# Altium footprint library memory.PCBLIB: 26 footprints (part 2 of 2)
Each footprint in its own frame and in the unit in brackets; x right, y up, seen from the top. Pads: shape width x height; smd on the part's side, far side on the other; paste and mask are expansions set on the pad; w line width, h text height; cw(c..) or ccw(c..) is an arc to the next point about the centre after c.
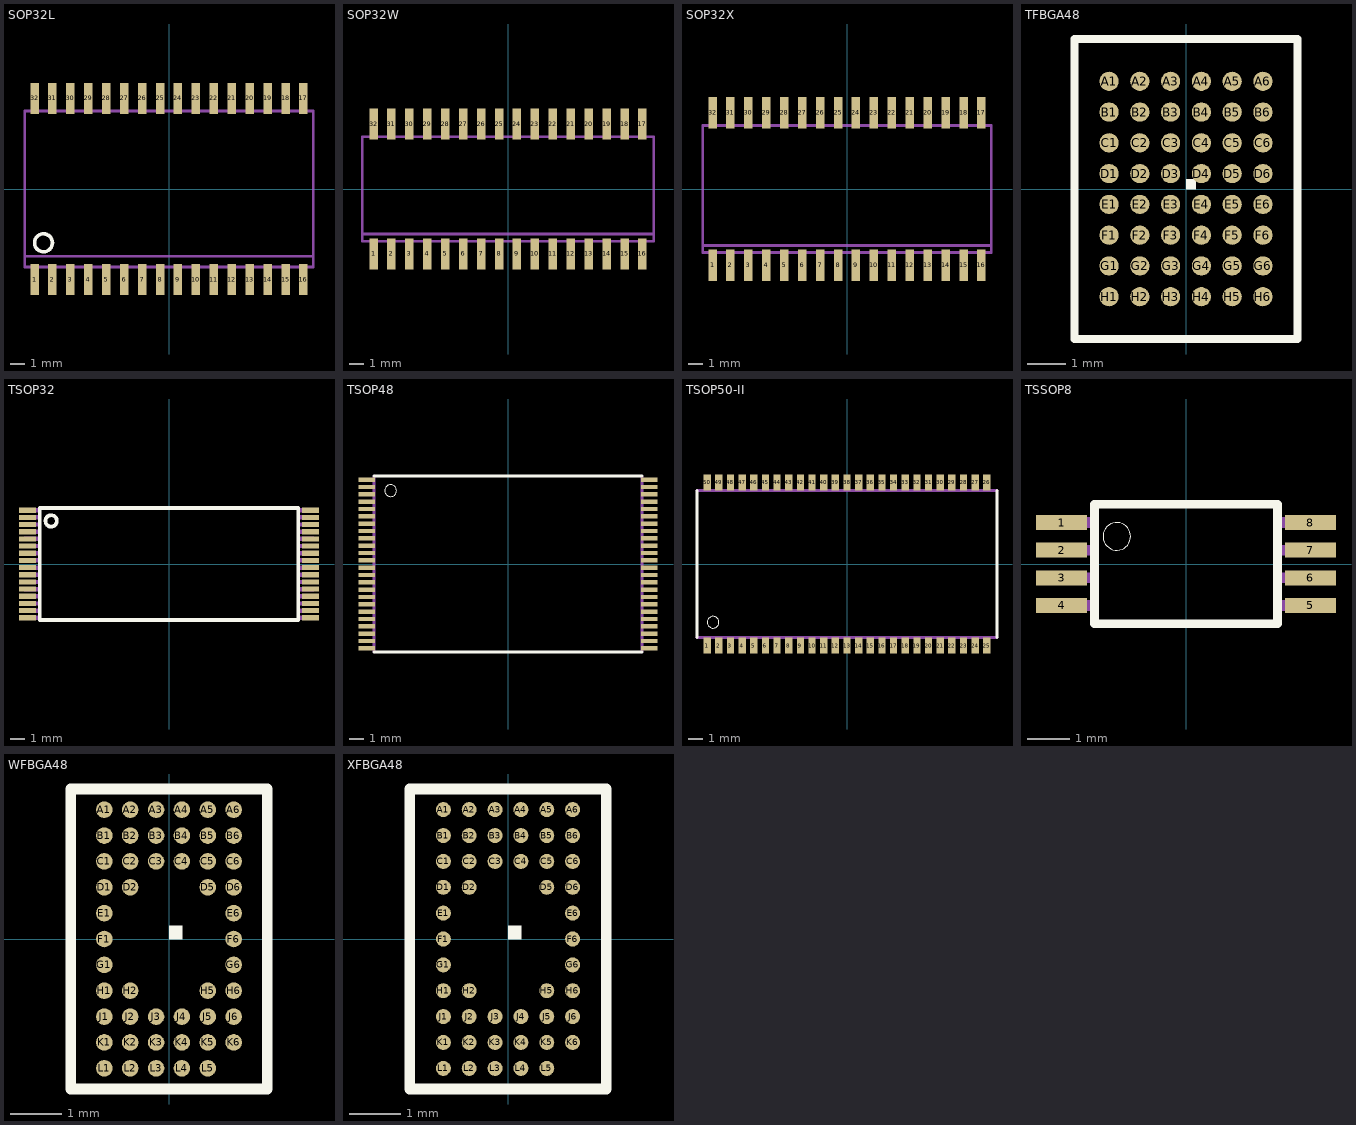
[diagram p1: the footprints below, top view; thin cyan lines are the x and y axes]

## SOP32L [mil]
pads (32):
  rect 23.62x86.61 smd: 1(-375,-252.6) 2(-325,-252.6) 3(-275,-252.6) 4(-225,-252.6) 5(-175,-252.6) 6(-125,-252.6) 7(-75,-252.6) 8(-25,-252.6) 9(25,-252.6) 10(75,-252.6) 11(125,-252.6) 12(175,-252.6) 13(225,-252.6) 14(275,-252.6) 15(325,-252.6) 16(375,-252.6) 17(375,252.6) 18(325,252.6) 19(275,252.6) 20(225,252.6) 21(175,252.6) 22(125,252.6) 23(75,252.6) 24(25,252.6) 25(-25,252.6) 26(-75,252.6) 27(-125,252.6) 28(-175,252.6) 29(-225,252.6) 30(-275,252.6) 31(-325,252.6) 32(-375,252.6)
Top Overlay:
  circle w10: c-350,-150 r25
Mechanical 16:
  rectangle: -384.65,-280.94 -365.35,-221.1
  rectangle: -334.65,-280.94 -315.35,-221.1
  rectangle: -284.65,-280.94 -265.35,-221.1
  rectangle: -234.65,-280.94 -215.35,-221.1
  rectangle: -184.65,-280.94 -165.35,-221.1
  rectangle: -134.65,-280.94 -115.35,-221.1
  rectangle: -84.65,-280.94 -65.35,-221.1
  rectangle: -34.65,-280.94 -15.35,-221.1
  rectangle: 15.35,-280.94 34.65,-221.1
  rectangle: 65.35,-280.94 84.65,-221.1
  rectangle: 115.35,-280.94 134.65,-221.1
  rectangle: 165.35,-280.94 184.65,-221.1
  rectangle: 215.35,-280.94 234.65,-221.1
  rectangle: 265.35,-280.94 284.65,-221.1
  rectangle: 315.35,-280.94 334.65,-221.1
  rectangle: 365.35,-280.94 384.65,-221.1
  rectangle: 365.35,221.1 384.65,280.94
  rectangle: 315.35,221.1 334.65,280.94
  rectangle: 265.35,221.1 284.65,280.94
  rectangle: 215.35,221.1 234.65,280.94
  rectangle: 165.35,221.1 184.65,280.94
  rectangle: 115.35,221.1 134.65,280.94
  rectangle: 65.35,221.1 84.65,280.94
  rectangle: 15.35,221.1 34.65,280.94
  rectangle: -34.65,221.1 -15.35,280.94
  rectangle: -84.65,221.1 -65.35,280.94
  rectangle: -134.65,221.1 -115.35,280.94
  rectangle: -184.65,221.1 -165.35,280.94
  rectangle: -234.65,221.1 -215.35,280.94
  rectangle: -284.65,221.1 -265.35,280.94
  rectangle: -334.65,221.1 -315.35,280.94
  rectangle: -384.65,221.1 -365.35,280.94
  lines w8: -402.36,-187.48 -402.36,-217.17 402.36,-217.17 402.36,-187.48 ; -402.36,-187.48 -402.36,217.17 402.36,217.17 402.36,-187.48 ; -402.36,-187.48 402.36,-187.48

## SOP32W [mil]
pads (32):
  rect 23.62x86.61 smd: 1(-375,-181.1) 2(-325,-181.1) 3(-275,-181.1) 4(-225,-181.1) 5(-175,-181.1) 6(-125,-181.1) 7(-75,-181.1) 8(-25,-181.1) 9(25,-181.1) 10(75,-181.1) 11(125,-181.1) 12(175,-181.1) 13(225,-181.1) 14(275,-181.1) 15(325,-181.1) 16(375,-181.1) 17(375,181.1) 18(325,181.1) 19(275,181.1) 20(225,181.1) 21(175,181.1) 22(125,181.1) 23(75,181.1) 24(25,181.1) 25(-25,181.1) 26(-75,181.1) 27(-125,181.1) 28(-175,181.1) 29(-225,181.1) 30(-275,181.1) 31(-325,181.1) 32(-375,181.1)
Mechanical 16:
  rectangle: -384.65,-209.45 -365.35,-149.61
  rectangle: -334.65,-209.45 -315.35,-149.61
  rectangle: -284.65,-209.45 -265.35,-149.61
  rectangle: -234.65,-209.45 -215.35,-149.61
  rectangle: -184.65,-209.45 -165.35,-149.61
  rectangle: -134.65,-209.45 -115.35,-149.61
  rectangle: -84.65,-209.45 -65.35,-149.61
  rectangle: -34.65,-209.45 -15.35,-149.61
  rectangle: 15.35,-209.45 34.65,-149.61
  rectangle: 65.35,-209.45 84.65,-149.61
  rectangle: 115.35,-209.45 134.65,-149.61
  rectangle: 165.35,-209.45 184.65,-149.61
  rectangle: 215.35,-209.45 234.65,-149.61
  rectangle: 265.35,-209.45 284.65,-149.61
  rectangle: 315.35,-209.45 334.65,-149.61
  rectangle: 365.35,-209.45 384.65,-149.61
  rectangle: 365.35,149.61 384.65,209.45
  rectangle: 315.35,149.61 334.65,209.45
  rectangle: 265.35,149.61 284.65,209.45
  rectangle: 215.35,149.61 234.65,209.45
  rectangle: 165.35,149.61 184.65,209.45
  rectangle: 115.35,149.61 134.65,209.45
  rectangle: 65.35,149.61 84.65,209.45
  rectangle: 15.35,149.61 34.65,209.45
  rectangle: -34.65,149.61 -15.35,209.45
  rectangle: -84.65,149.61 -65.35,209.45
  rectangle: -134.65,149.61 -115.35,209.45
  rectangle: -184.65,149.61 -165.35,209.45
  rectangle: -234.65,149.61 -215.35,209.45
  rectangle: -284.65,149.61 -265.35,209.45
  rectangle: -334.65,149.61 -315.35,209.45
  rectangle: -384.65,149.61 -365.35,209.45
  lines w8: -406.3,-125.98 -406.3,-145.67 406.3,-145.67 406.3,-125.98 ; -406.3,-125.98 -406.3,145.67 406.3,145.67 406.3,-125.98 ; -406.3,-125.98 406.3,-125.98

## SOP32X [mil]
pads (32):
  rect 23.62x86.61 smd: 1(-375,-212.6) 2(-325,-212.6) 3(-275,-212.6) 4(-225,-212.6) 5(-175,-212.6) 6(-125,-212.6) 7(-75,-212.6) 8(-25,-212.6) 9(25,-212.6) 10(75,-212.6) 11(125,-212.6) 12(175,-212.6) 13(225,-212.6) 14(275,-212.6) 15(325,-212.6) 16(375,-212.6) 17(375,212.6) 18(325,212.6) 19(275,212.6) 20(225,212.6) 21(175,212.6) 22(125,212.6) 23(75,212.6) 24(25,212.6) 25(-25,212.6) 26(-75,212.6) 27(-125,212.6) 28(-175,212.6) 29(-225,212.6) 30(-275,212.6) 31(-325,212.6) 32(-375,212.6)
Mechanical 16:
  rectangle: -384.65,-240.94 -365.35,-181.1
  rectangle: -334.65,-240.94 -315.35,-181.1
  rectangle: -284.65,-240.94 -265.35,-181.1
  rectangle: -234.65,-240.94 -215.35,-181.1
  rectangle: -184.65,-240.94 -165.35,-181.1
  rectangle: -134.65,-240.94 -115.35,-181.1
  rectangle: -84.65,-240.94 -65.35,-181.1
  rectangle: -34.65,-240.94 -15.35,-181.1
  rectangle: 15.35,-240.94 34.65,-181.1
  rectangle: 65.35,-240.94 84.65,-181.1
  rectangle: 115.35,-240.94 134.65,-181.1
  rectangle: 165.35,-240.94 184.65,-181.1
  rectangle: 215.35,-240.94 234.65,-181.1
  rectangle: 265.35,-240.94 284.65,-181.1
  rectangle: 315.35,-240.94 334.65,-181.1
  rectangle: 365.35,-240.94 384.65,-181.1
  rectangle: 365.35,181.1 384.65,240.94
  rectangle: 315.35,181.1 334.65,240.94
  rectangle: 265.35,181.1 284.65,240.94
  rectangle: 215.35,181.1 234.65,240.94
  rectangle: 165.35,181.1 184.65,240.94
  rectangle: 115.35,181.1 134.65,240.94
  rectangle: 65.35,181.1 84.65,240.94
  rectangle: 15.35,181.1 34.65,240.94
  rectangle: -34.65,181.1 -15.35,240.94
  rectangle: -84.65,181.1 -65.35,240.94
  rectangle: -134.65,181.1 -115.35,240.94
  rectangle: -184.65,181.1 -165.35,240.94
  rectangle: -234.65,181.1 -215.35,240.94
  rectangle: -284.65,181.1 -265.35,240.94
  rectangle: -334.65,181.1 -315.35,240.94
  rectangle: -384.65,181.1 -365.35,240.94
  lines w8: -402.36,-157.48 -402.36,-177.17 402.36,-177.17 402.36,-157.48 ; -402.36,-157.48 -402.36,177.17 402.36,177.17 402.36,-157.48 ; -402.36,-157.48 402.36,-157.48

## TFBGA48 [mm]
pads (48):
  rrect100% 0.5x0.5 smd: A1(-2,2.8) A2(-1.2,2.8) A3(-0.4,2.8) A4(0.4,2.8) A5(1.2,2.8) A6(2,2.8) B1(-2,2) B2(-1.2,2) B3(-0.4,2) B4(0.4,2) B5(1.2,2) B6(2,2) C1(-2,1.2) C2(-1.2,1.2) C3(-0.4,1.2) C4(0.4,1.2) C5(1.2,1.2) C6(2,1.2) D1(-2,0.4) D2(-1.2,0.4) D3(-0.4,0.4) D4(0.4,0.4) D5(1.2,0.4) D6(2,0.4) E1(-2,-0.4) E2(-1.2,-0.4) E3(-0.4,-0.4) E4(0.4,-0.4) E5(1.2,-0.4) E6(2,-0.4) F1(-2,-1.2) F2(-1.2,-1.2) F3(-0.4,-1.2) F4(0.4,-1.2) F5(1.2,-1.2) F6(2,-1.2) G1(-2,-2) G2(-1.2,-2) G3(-0.4,-2) G4(0.4,-2) G5(1.2,-2) G6(2,-2) H1(-2,-2.8) H2(-1.2,-2.8) H3(-0.4,-2.8) H4(0.4,-2.8) H5(1.2,-2.8) H6(2,-2.8)
Top Overlay:
  region: 0,0 0.254,0 0.254,0.254 0,0.254
  lines w0.203: -2.9,-3.9 2.9,-3.9 2.9,3.9 -2.9,3.9 -2.9,-3.9
Top Solder:
  circle w0: c-2,2.8 r0.225
  circle w0: c-2,2 r0.225
  circle w0: c-2,1.2 r0.225
  circle w0: c-2,0.4 r0.225
  circle w0: c-2,-0.4 r0.225
  circle w0: c-2,-1.2 r0.225
  circle w0: c-2,-2 r0.225
  circle w0: c-2,-2.8 r0.225
  circle w0: c-1.2,2.8 r0.225
  circle w0: c-1.2,2 r0.225
  circle w0: c-1.2,1.2 r0.225
  circle w0: c-1.2,0.4 r0.225
  circle w0: c-1.2,-0.4 r0.225
  circle w0: c-1.2,-1.2 r0.225
  circle w0: c-1.2,-2 r0.225
  circle w0: c-1.2,-2.8 r0.225
  circle w0: c-0.4,2.8 r0.225
  circle w0: c-0.4,2 r0.225
  circle w0: c-0.4,1.2 r0.225
  circle w0: c-0.4,0.4 r0.225
  circle w0: c-0.4,-0.4 r0.225
  circle w0: c-0.4,-1.2 r0.225
  circle w0: c-0.4,-2 r0.225
  circle w0: c-0.4,-2.8 r0.225
  circle w0: c0.4,2.8 r0.225
  circle w0: c0.4,2 r0.225
  circle w0: c0.4,1.2 r0.225
  circle w0: c0.4,0.4 r0.225
  circle w0: c0.4,-0.4 r0.225
  circle w0: c0.4,-1.2 r0.225
  circle w0: c0.4,-2 r0.225
  circle w0: c0.4,-2.8 r0.225
  circle w0: c1.2,2.8 r0.225
  circle w0: c1.2,2 r0.225
  circle w0: c1.2,1.2 r0.225
  circle w0: c1.2,0.4 r0.225
  circle w0: c1.2,-0.4 r0.225
  circle w0: c1.2,-1.2 r0.225
  circle w0: c1.2,-2 r0.225
  circle w0: c1.2,-2.8 r0.225
  circle w0: c2,2.8 r0.225
  circle w0: c2,2 r0.225
  circle w0: c2,1.2 r0.225
  circle w0: c2,0.4 r0.225
  circle w0: c2,-0.4 r0.225
  circle w0: c2,-1.2 r0.225
  circle w0: c2,-2 r0.225
  circle w0: c2,-2.8 r0.225

## TSOP32 [mil]
pads (32):
  rect 47.24x14.17 smd: 1(-387.8,147.64) 2(-387.8,127.95) 3(-387.8,108.27) 4(-387.8,88.58) 5(-387.8,68.9) 6(-387.8,49.21) 7(-387.8,29.53) 8(-387.8,9.84) 9(-387.8,-9.84) 10(-387.8,-29.53) 11(-387.8,-49.21) 12(-387.8,-68.9) 13(-387.8,-88.58) 14(-387.8,-108.27) 15(-387.8,-127.95) 16(-387.8,-147.64) 17(387.8,-147.64) 18(387.8,-127.95) 19(387.8,-108.27) 20(387.8,-88.58) 21(387.8,-68.9) 22(387.8,-49.21) 23(387.8,-29.53) 24(387.8,-9.84) 25(387.8,9.84) 26(387.8,29.53) 27(387.8,49.21) 28(387.8,68.9) 29(387.8,88.58) 30(387.8,108.27) 31(387.8,127.95) 32(387.8,147.64)
Top Overlay:
  circle w10: c-323.23,118.11 r15.75
  lines w10: -354.33,-153.54 354.33,-153.54 354.33,153.54 -354.33,153.54 -354.33,-153.54
Mechanical 16:
  rectangle: -398.02,141.64 -356.02,153.64
  rectangle: -398.02,121.95 -356.02,133.95
  rectangle: -398.02,102.27 -356.02,114.27
  rectangle: -398.02,82.58 -356.02,94.58
  rectangle: -398.02,62.9 -356.02,74.9
  rectangle: -398.02,43.21 -356.02,55.21
  rectangle: -398.02,23.53 -356.02,35.53
  rectangle: -398.02,3.84 -356.02,15.84
  rectangle: -398.02,-15.84 -356.02,-3.84
  rectangle: -398.02,-35.53 -356.02,-23.53
  rectangle: -398.02,-55.21 -356.02,-43.21
  rectangle: -398.02,-74.9 -356.02,-62.9
  rectangle: -398.02,-94.58 -356.02,-82.58
  rectangle: -398.02,-114.27 -356.02,-102.27
  rectangle: -398.02,-133.95 -356.02,-121.95
  rectangle: -398.02,-153.64 -356.02,-141.64
  rectangle: 356.02,-153.64 398.02,-141.64
  rectangle: 356.02,-133.95 398.02,-121.95
  rectangle: 356.02,-114.27 398.02,-102.27
  rectangle: 356.02,-94.58 398.02,-82.58
  rectangle: 356.02,-74.9 398.02,-62.9
  rectangle: 356.02,-55.21 398.02,-43.21
  rectangle: 356.02,-35.53 398.02,-23.53
  rectangle: 356.02,-15.84 398.02,-3.84
  rectangle: 356.02,3.84 398.02,15.84
  rectangle: 356.02,23.53 398.02,35.53
  rectangle: 356.02,43.21 398.02,55.21
  rectangle: 356.02,62.9 398.02,74.9
  rectangle: 356.02,82.58 398.02,94.58
  rectangle: 356.02,102.27 398.02,114.27
  rectangle: 356.02,121.95 398.02,133.95
  rectangle: 356.02,141.64 398.02,153.64

## TSOP48 [mil]
pads (48):
  rect 43.31x11.81 smd: 1(-378.94,226.38) 2(-378.94,206.69) 3(-378.94,187.01) 4(-378.94,167.32) 5(-378.94,147.64) 6(-378.94,127.95) 7(-378.94,108.27) 8(-378.94,88.58) 9(-378.94,68.9) 10(-378.94,49.21) 11(-378.94,29.53) 12(-378.94,9.84) 13(-378.94,-9.84) 14(-378.94,-29.53) 15(-378.94,-49.21) 16(-378.94,-68.9) 17(-378.94,-88.58) 18(-378.94,-108.27) 19(-378.94,-127.95) 20(-378.94,-147.64) 21(-378.94,-167.32) 22(-378.94,-187.01) 23(-378.94,-206.69) 24(-378.94,-226.38) 25(378.94,-226.38) 26(378.94,-206.69) 27(378.94,-187.01) 28(378.94,-167.32) 29(378.94,-147.64) 30(378.94,-127.95) 31(378.94,-108.27) 32(378.94,-88.58) 33(378.94,-68.9) 34(378.94,-49.21) 35(378.94,-29.53) 36(378.94,-9.84) 37(378.94,9.84) 38(378.94,29.53) 39(378.94,49.21) 40(378.94,68.9) 41(378.94,88.58) 42(378.94,108.27) 43(378.94,127.95) 44(378.94,147.64) 45(378.94,167.32) 46(378.94,187.01) 47(378.94,206.69) 48(378.94,226.38)
Top Overlay:
  circle w0: c-314.96,196.85 r15.75
  lines w8: -360.24,-236.22 360.24,-236.22 ; -360.24,236.22 360.24,236.22
Top Solder:
  rectangle: -402.56,218.5 -355.32,234.25
  rectangle: -402.56,198.82 -355.32,214.57
  rectangle: -402.56,179.13 -355.32,194.88
  rectangle: -402.56,159.45 -355.32,175.2
  rectangle: -402.56,139.76 -355.32,155.51
  rectangle: -402.56,120.08 -355.32,135.83
  rectangle: -402.56,100.39 -355.32,116.14
  rectangle: -402.56,80.71 -355.32,96.46
  rectangle: -402.56,61.02 -355.32,76.77
  rectangle: -402.56,41.34 -355.32,57.09
  rectangle: -402.56,21.65 -355.32,37.4
  rectangle: -402.56,1.97 -355.32,17.72
  rectangle: -402.56,-17.72 -355.32,-1.97
  rectangle: -402.56,-37.4 -355.32,-21.65
  rectangle: -402.56,-57.09 -355.32,-41.34
  rectangle: -402.56,-76.77 -355.32,-61.02
  rectangle: -402.56,-96.46 -355.32,-80.71
  rectangle: -402.56,-116.14 -355.32,-100.39
  rectangle: -402.56,-135.83 -355.32,-120.08
  rectangle: -402.56,-155.51 -355.32,-139.76
  rectangle: -402.56,-175.2 -355.32,-159.45
  rectangle: -402.56,-194.88 -355.32,-179.13
  rectangle: -402.56,-214.57 -355.32,-198.82
  rectangle: -402.56,-234.25 -355.32,-218.5
  region: 402.56,-218.5 355.32,-218.5 355.32,-234.25 402.56,-234.25
  region: 402.56,-198.82 355.32,-198.82 355.32,-214.57 402.56,-214.57
  region: 402.56,-179.13 355.32,-179.13 355.32,-194.88 402.56,-194.88
  region: 402.56,-159.45 355.32,-159.45 355.32,-175.2 402.56,-175.2
  region: 402.56,-139.76 355.32,-139.76 355.32,-155.51 402.56,-155.51
  region: 402.56,-120.08 355.32,-120.08 355.32,-135.83 402.56,-135.83
  region: 402.56,-100.39 355.32,-100.39 355.32,-116.14 402.56,-116.14
  region: 402.56,-80.71 355.32,-80.71 355.32,-96.46 402.56,-96.46
  region: 402.56,-61.02 355.32,-61.02 355.32,-76.77 402.56,-76.77
  region: 402.56,-41.34 355.32,-41.34 355.32,-57.09 402.56,-57.09
  region: 402.56,-21.65 355.32,-21.65 355.32,-37.4 402.56,-37.4
  region: 402.56,-1.97 355.32,-1.97 355.32,-17.72 402.56,-17.72
  region: 402.56,17.72 355.32,17.72 355.32,1.97 402.56,1.97
  region: 402.56,37.4 355.32,37.4 355.32,21.65 402.56,21.65
  region: 402.56,57.09 355.32,57.09 355.32,41.34 402.56,41.34
  region: 402.56,76.77 355.32,76.77 355.32,61.02 402.56,61.02
  region: 402.56,96.46 355.32,96.46 355.32,80.71 402.56,80.71
  region: 402.56,116.14 355.32,116.14 355.32,100.39 402.56,100.39
  region: 402.56,135.83 355.32,135.83 355.32,120.08 402.56,120.08
  region: 402.56,155.51 355.32,155.51 355.32,139.76 402.56,139.76
  region: 402.56,175.2 355.32,175.2 355.32,159.45 402.56,159.45
  region: 402.56,194.88 355.32,194.88 355.32,179.13 402.56,179.13
  region: 402.56,214.57 355.32,214.57 355.32,198.82 402.56,198.82
  region: 402.56,234.25 355.32,234.25 355.32,218.5 402.56,218.5
Mechanical 16:
  rectangle: -397.64,221.46 -363.19,231.3
  rectangle: -397.64,201.77 -363.19,211.61
  rectangle: -397.64,182.09 -363.19,191.93
  rectangle: -397.64,162.4 -363.19,172.24
  rectangle: -397.64,142.72 -363.19,152.56
  rectangle: -397.64,123.03 -363.19,132.87
  rectangle: -397.64,103.35 -363.19,113.19
  rectangle: -397.64,83.66 -363.19,93.5
  rectangle: -397.64,63.98 -363.19,73.82
  rectangle: -397.64,44.29 -363.19,54.13
  rectangle: -397.64,24.61 -363.19,34.45
  rectangle: -397.64,4.92 -363.19,14.76
  rectangle: -397.64,-14.76 -363.19,-4.92
  rectangle: -397.64,-34.45 -363.19,-24.61
  rectangle: -397.64,-54.13 -363.19,-44.29
  rectangle: -397.64,-73.82 -363.19,-63.98
  rectangle: -397.64,-93.5 -363.19,-83.66
  rectangle: -397.64,-113.19 -363.19,-103.35
  rectangle: -397.64,-132.87 -363.19,-123.03
  rectangle: -397.64,-152.56 -363.19,-142.72
  rectangle: -397.64,-172.24 -363.19,-162.4
  rectangle: -397.64,-191.93 -363.19,-182.09
  rectangle: -397.64,-211.61 -363.19,-201.77
  rectangle: -397.64,-231.3 -363.19,-221.46
  region: 397.64,-221.46 363.19,-221.46 363.19,-231.3 397.64,-231.3
  region: 397.64,-201.77 363.19,-201.77 363.19,-211.61 397.64,-211.61
  region: 397.64,-182.09 363.19,-182.09 363.19,-191.93 397.64,-191.93
  region: 397.64,-162.4 363.19,-162.4 363.19,-172.24 397.64,-172.24
  region: 397.64,-142.72 363.19,-142.72 363.19,-152.56 397.64,-152.56
  region: 397.64,-123.03 363.19,-123.03 363.19,-132.87 397.64,-132.87
  region: 397.64,-103.35 363.19,-103.35 363.19,-113.19 397.64,-113.19
  region: 397.64,-83.66 363.19,-83.66 363.19,-93.5 397.64,-93.5
  region: 397.64,-63.98 363.19,-63.98 363.19,-73.82 397.64,-73.82
  region: 397.64,-44.29 363.19,-44.29 363.19,-54.13 397.64,-54.13
  region: 397.64,-24.61 363.19,-24.61 363.19,-34.45 397.64,-34.45
  region: 397.64,-4.92 363.19,-4.92 363.19,-14.76 397.64,-14.76
  region: 397.64,14.76 363.19,14.76 363.19,4.92 397.64,4.92
  region: 397.64,34.45 363.19,34.45 363.19,24.61 397.64,24.61
  region: 397.64,54.13 363.19,54.13 363.19,44.29 397.64,44.29
  region: 397.64,73.82 363.19,73.82 363.19,63.98 397.64,63.98
  region: 397.64,93.5 363.19,93.5 363.19,83.66 397.64,83.66
  region: 397.64,113.19 363.19,113.19 363.19,103.35 397.64,103.35
  region: 397.64,132.87 363.19,132.87 363.19,123.03 397.64,123.03
  region: 397.64,152.56 363.19,152.56 363.19,142.72 397.64,142.72
  region: 397.64,172.24 363.19,172.24 363.19,162.4 397.64,162.4
  region: 397.64,191.93 363.19,191.93 363.19,182.09 397.64,182.09
  region: 397.64,211.61 363.19,211.61 363.19,201.77 397.64,201.77
  region: 397.64,231.3 363.19,231.3 363.19,221.46 397.64,221.46
  lines w8: -360.24,-236.22 -360.24,236.22 ; 360.24,-236.22 360.24,236.22

## TSOP50-II [mm]
pads (50):
  rect 0.5x1.1 smd: 1(-9.6,-5.6) 2(-8.8,-5.6) 3(-8,-5.6) 4(-7.2,-5.6) 5(-6.4,-5.6) 6(-5.6,-5.6) 7(-4.8,-5.6) 8(-4,-5.6) 9(-3.2,-5.6) 10(-2.4,-5.6) 11(-1.6,-5.6) 12(-0.8,-5.6) 13(0,-5.6) 14(0.8,-5.6) 15(1.6,-5.6) 16(2.4,-5.6) 17(3.2,-5.6) 18(4,-5.6) 19(4.8,-5.6) 20(5.6,-5.6) 21(6.4,-5.6) 22(7.2,-5.6) 23(8,-5.6) 24(8.8,-5.6) 25(9.6,-5.6) 26(9.6,5.6) 27(8.8,5.6) 28(8,5.6) 29(7.2,5.6) 30(6.4,5.6) 31(5.6,5.6) 32(4.8,5.6) 33(4,5.6) 34(3.2,5.6) 35(2.4,5.6) 36(1.6,5.6) 37(0.8,5.6) 38(0,5.6) 39(-0.8,5.6) 40(-1.6,5.6) 41(-2.4,5.6) 42(-3.2,5.6) 43(-4,5.6) 44(-4.8,5.6) 45(-5.6,5.6) 46(-6.4,5.6) 47(-7.2,5.6) 48(-8,5.6) 49(-8.8,5.6) 50(-9.6,5.6)
Top Overlay:
  circle w0: c-9.2,-4 r0.4
  lines w0.203: -10.3,-5.05 -10.3,5.05 ; 10.3,-5.05 10.3,5.05
Top Paste:
  rectangle: -9.8,-6.125 -9.4,-5.075
  rectangle: -9,-6.125 -8.6,-5.075
  rectangle: -8.2,-6.125 -7.8,-5.075
  rectangle: -7.4,-6.125 -7,-5.075
  rectangle: -6.6,-6.125 -6.2,-5.075
  rectangle: -5.8,-6.125 -5.4,-5.075
  rectangle: -5,-6.125 -4.6,-5.075
  rectangle: -4.2,-6.125 -3.8,-5.075
  rectangle: -3.4,-6.125 -3,-5.075
  rectangle: -2.6,-6.125 -2.2,-5.075
  rectangle: -1.8,-6.125 -1.4,-5.075
  rectangle: -1,-6.125 -0.6,-5.075
  rectangle: -0.2,-6.125 0.2,-5.075
  rectangle: 0.6,-6.125 1,-5.075
  rectangle: 1.4,-6.125 1.8,-5.075
  rectangle: 2.2,-6.125 2.6,-5.075
  rectangle: 3,-6.125 3.4,-5.075
  rectangle: 3.8,-6.125 4.2,-5.075
  rectangle: 4.6,-6.125 5,-5.075
  rectangle: 5.4,-6.125 5.8,-5.075
  rectangle: 6.2,-6.125 6.6,-5.075
  rectangle: 7,-6.125 7.4,-5.075
  rectangle: 7.8,-6.125 8.2,-5.075
  rectangle: 8.6,-6.125 9,-5.075
  rectangle: 9.4,-6.125 9.8,-5.075
  region: 9.8,6.125 9.4,6.125 9.4,5.075 9.8,5.075
  region: 9,6.125 8.6,6.125 8.6,5.075 9,5.075
  region: 8.2,6.125 7.8,6.125 7.8,5.075 8.2,5.075
  region: 7.4,6.125 7,6.125 7,5.075 7.4,5.075
  region: 6.6,6.125 6.2,6.125 6.2,5.075 6.6,5.075
  region: 5.8,6.125 5.4,6.125 5.4,5.075 5.8,5.075
  region: 5,6.125 4.6,6.125 4.6,5.075 5,5.075
  region: 4.2,6.125 3.8,6.125 3.8,5.075 4.2,5.075
  region: 3.4,6.125 3,6.125 3,5.075 3.4,5.075
  region: 2.6,6.125 2.2,6.125 2.2,5.075 2.6,5.075
  region: 1.8,6.125 1.4,6.125 1.4,5.075 1.8,5.075
  region: 1,6.125 0.6,6.125 0.6,5.075 1,5.075
  region: 0.2,6.125 -0.2,6.125 -0.2,5.075 0.2,5.075
  region: -0.6,6.125 -1,6.125 -1,5.075 -0.6,5.075
  region: -1.4,6.125 -1.8,6.125 -1.8,5.075 -1.4,5.075
  region: -2.2,6.125 -2.6,6.125 -2.6,5.075 -2.2,5.075
  region: -3,6.125 -3.4,6.125 -3.4,5.075 -3,5.075
  region: -3.8,6.125 -4.2,6.125 -4.2,5.075 -3.8,5.075
  region: -4.6,6.125 -5,6.125 -5,5.075 -4.6,5.075
  region: -5.4,6.125 -5.8,6.125 -5.8,5.075 -5.4,5.075
  region: -6.2,6.125 -6.6,6.125 -6.6,5.075 -6.2,5.075
  region: -7,6.125 -7.4,6.125 -7.4,5.075 -7,5.075
  region: -7.8,6.125 -8.2,6.125 -8.2,5.075 -7.8,5.075
  region: -8.6,6.125 -9,6.125 -9,5.075 -8.6,5.075
  region: -9.4,6.125 -9.8,6.125 -9.8,5.075 -9.4,5.075
Top Solder:
  rectangle: -9.9,-6.225 -9.3,-4.975
  rectangle: -9.1,-6.225 -8.5,-4.975
  rectangle: -8.3,-6.225 -7.7,-4.975
  rectangle: -7.5,-6.225 -6.9,-4.975
  rectangle: -6.7,-6.225 -6.1,-4.975
  rectangle: -5.9,-6.225 -5.3,-4.975
  rectangle: -5.1,-6.225 -4.5,-4.975
  rectangle: -4.3,-6.225 -3.7,-4.975
  rectangle: -3.5,-6.225 -2.9,-4.975
  rectangle: -2.7,-6.225 -2.1,-4.975
  rectangle: -1.9,-6.225 -1.3,-4.975
  rectangle: -1.1,-6.225 -0.5,-4.975
  rectangle: -0.3,-6.225 0.3,-4.975
  rectangle: 0.5,-6.225 1.1,-4.975
  rectangle: 1.3,-6.225 1.9,-4.975
  rectangle: 2.1,-6.225 2.7,-4.975
  rectangle: 2.9,-6.225 3.5,-4.975
  rectangle: 3.7,-6.225 4.3,-4.975
  rectangle: 4.5,-6.225 5.1,-4.975
  rectangle: 5.3,-6.225 5.9,-4.975
  rectangle: 6.1,-6.225 6.7,-4.975
  rectangle: 6.9,-6.225 7.5,-4.975
  rectangle: 7.7,-6.225 8.3,-4.975
  rectangle: 8.5,-6.225 9.1,-4.975
  rectangle: 9.3,-6.225 9.9,-4.975
  region: 9.9,6.225 9.3,6.225 9.3,4.975 9.9,4.975
  region: 9.1,6.225 8.5,6.225 8.5,4.975 9.1,4.975
  region: 8.3,6.225 7.7,6.225 7.7,4.975 8.3,4.975
  region: 7.5,6.225 6.9,6.225 6.9,4.975 7.5,4.975
  region: 6.7,6.225 6.1,6.225 6.1,4.975 6.7,4.975
  region: 5.9,6.225 5.3,6.225 5.3,4.975 5.9,4.975
  region: 5.1,6.225 4.5,6.225 4.5,4.975 5.1,4.975
  region: 4.3,6.225 3.7,6.225 3.7,4.975 4.3,4.975
  region: 3.5,6.225 2.9,6.225 2.9,4.975 3.5,4.975
  region: 2.7,6.225 2.1,6.225 2.1,4.975 2.7,4.975
  region: 1.9,6.225 1.3,6.225 1.3,4.975 1.9,4.975
  region: 1.1,6.225 0.5,6.225 0.5,4.975 1.1,4.975
  region: 0.3,6.225 -0.3,6.225 -0.3,4.975 0.3,4.975
  region: -0.5,6.225 -1.1,6.225 -1.1,4.975 -0.5,4.975
  region: -1.3,6.225 -1.9,6.225 -1.9,4.975 -1.3,4.975
  region: -2.1,6.225 -2.7,6.225 -2.7,4.975 -2.1,4.975
  region: -2.9,6.225 -3.5,6.225 -3.5,4.975 -2.9,4.975
  region: -3.7,6.225 -4.3,6.225 -4.3,4.975 -3.7,4.975
  region: -4.5,6.225 -5.1,6.225 -5.1,4.975 -4.5,4.975
  region: -5.3,6.225 -5.9,6.225 -5.9,4.975 -5.3,4.975
  region: -6.1,6.225 -6.7,6.225 -6.7,4.975 -6.1,4.975
  region: -6.9,6.225 -7.5,6.225 -7.5,4.975 -6.9,4.975
  region: -7.7,6.225 -8.3,6.225 -8.3,4.975 -7.7,4.975
  region: -8.5,6.225 -9.1,6.225 -9.1,4.975 -8.5,4.975
  region: -9.3,6.225 -9.9,6.225 -9.9,4.975 -9.3,4.975
Mechanical 16:
  rectangle: -9.8,-6 -9.4,-5.05
  rectangle: -9,-6 -8.6,-5.05
  rectangle: -8.2,-6 -7.8,-5.05
  rectangle: -7.4,-6 -7,-5.05
  rectangle: -6.6,-6 -6.2,-5.05
  rectangle: -5.8,-6 -5.4,-5.05
  rectangle: -5,-6 -4.6,-5.05
  rectangle: -4.2,-6 -3.8,-5.05
  rectangle: -3.4,-6 -3,-5.05
  rectangle: -2.6,-6 -2.2,-5.05
  rectangle: -1.8,-6 -1.4,-5.05
  rectangle: -1,-6 -0.6,-5.05
  rectangle: -0.2,-6 0.2,-5.05
  rectangle: 0.6,-6 1,-5.05
  rectangle: 1.4,-6 1.8,-5.05
  rectangle: 2.2,-6 2.6,-5.05
  rectangle: 3,-6 3.4,-5.05
  rectangle: 3.8,-6 4.2,-5.05
  rectangle: 4.6,-6 5,-5.05
  rectangle: 5.4,-6 5.8,-5.05
  rectangle: 6.2,-6 6.6,-5.05
  rectangle: 7,-6 7.4,-5.05
  rectangle: 7.8,-6 8.2,-5.05
  rectangle: 8.6,-6 9,-5.05
  rectangle: 9.4,-6 9.8,-5.05
  region: 9.8,6 9.4,6 9.4,5.05 9.8,5.05
  region: 9,6 8.6,6 8.6,5.05 9,5.05
  region: 8.2,6 7.8,6 7.8,5.05 8.2,5.05
  region: 7.4,6 7,6 7,5.05 7.4,5.05
  region: 6.6,6 6.2,6 6.2,5.05 6.6,5.05
  region: 5.8,6 5.4,6 5.4,5.05 5.8,5.05
  region: 5,6 4.6,6 4.6,5.05 5,5.05
  region: 4.2,6 3.8,6 3.8,5.05 4.2,5.05
  region: 3.4,6 3,6 3,5.05 3.4,5.05
  region: 2.6,6 2.2,6 2.2,5.05 2.6,5.05
  region: 1.8,6 1.4,6 1.4,5.05 1.8,5.05
  region: 1,6 0.6,6 0.6,5.05 1,5.05
  region: 0.2,6 -0.2,6 -0.2,5.05 0.2,5.05
  region: -0.6,6 -1,6 -1,5.05 -0.6,5.05
  region: -1.4,6 -1.8,6 -1.8,5.05 -1.4,5.05
  region: -2.2,6 -2.6,6 -2.6,5.05 -2.2,5.05
  region: -3,6 -3.4,6 -3.4,5.05 -3,5.05
  region: -3.8,6 -4.2,6 -4.2,5.05 -3.8,5.05
  region: -4.6,6 -5,6 -5,5.05 -4.6,5.05
  region: -5.4,6 -5.8,6 -5.8,5.05 -5.4,5.05
  region: -6.2,6 -6.6,6 -6.6,5.05 -6.2,5.05
  region: -7,6 -7.4,6 -7.4,5.05 -7,5.05
  region: -7.8,6 -8.2,6 -8.2,5.05 -7.8,5.05
  region: -8.6,6 -9,6 -9,5.05 -8.6,5.05
  region: -9.4,6 -9.8,6 -9.8,5.05 -9.4,5.05
  lines w0.203: -10.3,-5.05 10.3,-5.05 ; -10.3,5.05 10.3,5.05

## TSSOP8 [mm]
pads (8):
  rect 1.2x0.35 smd: 1(-2.925,0.975) 2(-2.925,0.325) 3(-2.925,-0.325) 4(-2.925,-0.975) 5(2.925,-0.975) 6(2.925,-0.325) 7(2.925,0.325) 8(2.925,0.975)
Top Overlay:
  circle w0: c-1.625,0.65 r0.325
  lines w0.203: -2.15,-1.4 2.15,-1.4 2.15,1.4 -2.15,1.4 -2.15,-1.4
Mechanical 16:
  rectangle: -3.2,0.85 -2.2,1.1
  rectangle: -3.2,0.2 -2.2,0.45
  rectangle: -3.2,-0.45 -2.2,-0.2
  rectangle: -3.2,-1.1 -2.2,-0.85
  rectangle: 2.2,-1.1 3.2,-0.85
  rectangle: 2.2,-0.45 3.2,-0.2
  rectangle: 2.2,0.2 3.2,0.45
  rectangle: 2.2,0.85 3.2,1.1

## WFBGA48 [mm]
pads (49):
  rrect100% 0.32x0.32 smd: A1(-1.25,2.5) A2(-0.75,2.5) A3(-0.25,2.5) A4(0.25,2.5) A5(0.75,2.5) A6(1.25,2.5) B1(-1.25,2) B2(-0.75,2) B3(-0.25,2) B4(0.25,2) B5(0.75,2) B6(1.25,2) C1(-1.25,1.5) C2(-0.75,1.5) C3(-0.25,1.5) C4(0.25,1.5) C5(0.75,1.5) C6(1.25,1.5) D1(-1.25,1) D2(-0.75,1) D5(0.75,1) D6(1.25,1) E1(-1.25,0.5) E6(1.25,0.5) F1(-1.25,0) F6(1.25,0) G1(-1.25,-0.5) G6(1.25,-0.5) H1(-1.25,-1) H2(-0.75,-1) H5(0.75,-1) H6(1.25,-1) J1(-1.25,-1.5) J2(-0.75,-1.5) J3(-0.25,-1.5) J4(0.25,-1.5) J5(0.75,-1.5) J6(1.25,-1.5) K1(-1.25,-2) K2(-0.75,-2) K3(-0.25,-2) K4(0.25,-2) K5(0.75,-2) K6(1.25,-2) L1(-1.25,-2.5) L2(-0.75,-2.5) L3(-0.25,-2.5) L4(0.25,-2.5) L5(0.75,-2.5)
Top Overlay:
  region: 0,0 0.254,0 0.254,0.254 0,0.254
  lines w0.203: -1.9,-2.9 1.9,-2.9 1.9,2.9 -1.9,2.9 -1.9,-2.9
Top Solder:
  circle w0: c-1.25,2.5 r0.16
  circle w0: c-1.25,2 r0.16
  circle w0: c-1.25,1.5 r0.16
  circle w0: c-1.25,1 r0.16
  circle w0: c-1.25,0.5 r0.16
  circle w0: c-1.25,0 r0.16
  circle w0: c-1.25,-0.5 r0.16
  circle w0: c-1.25,-1 r0.16
  circle w0: c-1.25,-1.5 r0.16
  circle w0: c-1.25,-2 r0.16
  circle w0: c-0.75,2.5 r0.16
  circle w0: c-0.75,2 r0.16
  circle w0: c-0.75,1.5 r0.16
  circle w0: c-0.75,1 r0.16
  circle w0: c-0.75,-1 r0.16
  circle w0: c-0.75,-1.5 r0.16
  circle w0: c-0.75,-2 r0.16
  circle w0: c-0.25,2.5 r0.16
  circle w0: c-0.25,2 r0.16
  circle w0: c-0.25,1.5 r0.16
  circle w0: c-0.25,-1.5 r0.16
  circle w0: c-0.25,-2 r0.16
  circle w0: c0.25,2.5 r0.16
  circle w0: c0.25,2 r0.16
  circle w0: c0.25,1.5 r0.16
  circle w0: c0.25,-1.5 r0.16
  circle w0: c0.25,-2 r0.16
  circle w0: c0.75,2.5 r0.16
  circle w0: c0.75,2 r0.16
  circle w0: c0.75,1.5 r0.16
  circle w0: c0.75,1 r0.16
  circle w0: c0.75,-1 r0.16
  circle w0: c0.75,-1.5 r0.16
  circle w0: c0.75,-2 r0.16
  circle w0: c1.25,2.5 r0.16
  circle w0: c1.25,2 r0.16
  circle w0: c1.25,1.5 r0.16
  circle w0: c1.25,1 r0.16
  circle w0: c1.25,0.5 r0.16
  circle w0: c1.25,0 r0.16
  circle w0: c1.25,-0.5 r0.16
  circle w0: c1.25,-1 r0.16
  circle w0: c1.25,-1.5 r0.16
  circle w0: c1.25,-2 r0.16
  circle w0: c-1.25,-2.5 r0.16
  circle w0: c-0.75,-2.5 r0.16
  circle w0: c-0.25,-2.5 r0.16
  circle w0: c0.25,-2.5 r0.16
  circle w0: c0.75,-2.5 r0.16

## XFBGA48 [mm]
pads (49):
  rrect100% 0.29x0.29 smd: A1(-1.25,2.5) A2(-0.75,2.5) A3(-0.25,2.5) A4(0.25,2.5) A5(0.75,2.5) A6(1.25,2.5) B1(-1.25,2) B2(-0.75,2) B3(-0.25,2) B4(0.25,2) B5(0.75,2) B6(1.25,2) C1(-1.25,1.5) C2(-0.75,1.5) C3(-0.25,1.5) C4(0.25,1.5) C5(0.75,1.5) C6(1.25,1.5) D1(-1.25,1) D2(-0.75,1) D5(0.75,1) D6(1.25,1) E1(-1.25,0.5) E6(1.25,0.5) F1(-1.25,0) F6(1.25,0) G1(-1.25,-0.5) G6(1.25,-0.5) H1(-1.25,-1) H2(-0.75,-1) H5(0.75,-1) H6(1.25,-1) J1(-1.25,-1.5) J2(-0.75,-1.5) J3(-0.25,-1.5) J4(0.25,-1.5) J5(0.75,-1.5) J6(1.25,-1.5) K1(-1.25,-2) K2(-0.75,-2) K3(-0.25,-2) K4(0.25,-2) K5(0.75,-2) K6(1.25,-2) L1(-1.25,-2.5) L2(-0.75,-2.5) L3(-0.25,-2.5) L4(0.25,-2.5) L5(0.75,-2.5)
Top Overlay:
  region: 0,0 0.254,0 0.254,0.254 0,0.254
  lines w0.203: -1.9,-2.9 1.9,-2.9 1.9,2.9 -1.9,2.9 -1.9,-2.9
Top Solder:
  circle w0: c-1.25,2.5 r0.16
  circle w0: c-1.25,2 r0.16
  circle w0: c-1.25,1.5 r0.16
  circle w0: c-1.25,1 r0.16
  circle w0: c-1.25,0.5 r0.16
  circle w0: c-1.25,0 r0.16
  circle w0: c-1.25,-0.5 r0.16
  circle w0: c-1.25,-1 r0.16
  circle w0: c-1.25,-1.5 r0.16
  circle w0: c-1.25,-2 r0.16
  circle w0: c-0.75,2.5 r0.16
  circle w0: c-0.75,2 r0.16
  circle w0: c-0.75,1.5 r0.16
  circle w0: c-0.75,1 r0.16
  circle w0: c-0.75,-1 r0.16
  circle w0: c-0.75,-1.5 r0.16
  circle w0: c-0.75,-2 r0.16
  circle w0: c-0.25,2.5 r0.16
  circle w0: c-0.25,2 r0.16
  circle w0: c-0.25,1.5 r0.16
  circle w0: c-0.25,-1.5 r0.16
  circle w0: c-0.25,-2 r0.16
  circle w0: c0.25,2.5 r0.16
  circle w0: c0.25,2 r0.16
  circle w0: c0.25,1.5 r0.16
  circle w0: c0.25,-1.5 r0.16
  circle w0: c0.25,-2 r0.16
  circle w0: c0.75,2.5 r0.16
  circle w0: c0.75,2 r0.16
  circle w0: c0.75,1.5 r0.16
  circle w0: c0.75,1 r0.16
  circle w0: c0.75,-1 r0.16
  circle w0: c0.75,-1.5 r0.16
  circle w0: c0.75,-2 r0.16
  circle w0: c1.25,2.5 r0.16
  circle w0: c1.25,2 r0.16
  circle w0: c1.25,1.5 r0.16
  circle w0: c1.25,1 r0.16
  circle w0: c1.25,0.5 r0.16
  circle w0: c1.25,0 r0.16
  circle w0: c1.25,-0.5 r0.16
  circle w0: c1.25,-1 r0.16
  circle w0: c1.25,-1.5 r0.16
  circle w0: c1.25,-2 r0.16
  circle w0: c-1.25,-2.5 r0.16
  circle w0: c-0.75,-2.5 r0.16
  circle w0: c-0.25,-2.5 r0.16
  circle w0: c0.25,-2.5 r0.16
  circle w0: c0.75,-2.5 r0.16